# EAGLE library part ALM-1712 (library X893)
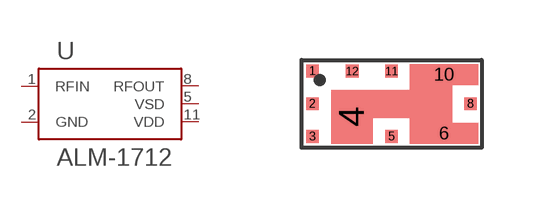
[diagram p39: symbol with the pads of ALM-1712; footprint ALM-1712]

Designator prefix U

## ALM-1712  [ALM-1712]
1  RFIN  pas
2  GND  pwr
3  GND  pwr
4  GND  pwr
5  VSD  pas
6  GND  pwr
8  RFOUT  pas
10  GND  pwr
11  VDD  pas
12  GND  pwr

## Footprint ALM-1712 (pad centres in mm)
smd 0.32 x 0.32: 1 -1.975,0.82; 2 -1.975,0; 3 -1.975,-0.82; 5 0,-0.82; 8 1.975,0; 11 0,0.82; 12 -0.985,0.82
smd 0.92 x 1.22: 4 -1.005,-0.325
smd 1.51 x 0.475: 6 1.315,-0.738; 10 1.315,0.738